# EAGLE library part DRV8830 (library vibhud)
DRV8830 I2C DC Motor Driver TSSOP-10 with exposed power pad 1A current limit, 2.75V to 6.8V
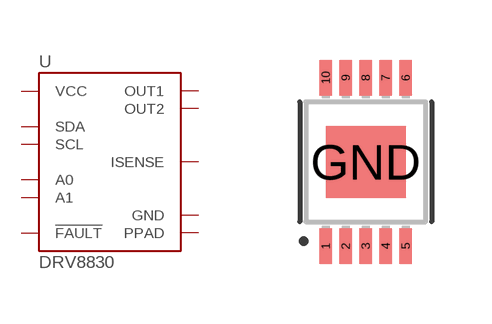
[diagram p4: symbol with the pads of MSOP-10-GNDPAD; footprint MSOP-10-GNDPAD]

Designator prefix U

## DRV8830 (PROD_ID: IC-11646)  [MSOP-10-GNDPAD]
1  OUT2  pwr
2  ISENSE
3  OUT1  pwr
4  VCC  pwr
5  GND  pwr
6  !FAULT  out
7  A0  in
8  A1  in
9  SDA
10  SCL  in
GND  PPAD  pwr

## Footprint MSOP-10-GNDPAD (pad centres in mm)
10-lead MSOP w/ center GND pad
smd 0.305 x 0.889: 1 -1,-2.11; 2 -0.5,-2.11; 3 0,-2.11; 4 0.5,-2.11; 5 1,-2.11; 6 1,2.11; 7 0.5,2.11; 8 0,2.11; 9 -0.5,2.11; 10 -1,2.11
smd 2 x 1.8: GND 0,0